# Altium footprint library RM48L950DPGET.PcbLib: 3 footprints
Each footprint in its own frame and in the unit in brackets; x right, y up, seen from the top. Pads: shape width x height; smd on the part's side, far side on the other; paste and mask are expansions set on the pad; w line width, h text height; cw(c..) or ccw(c..) is an arc to the next point about the centre after c.
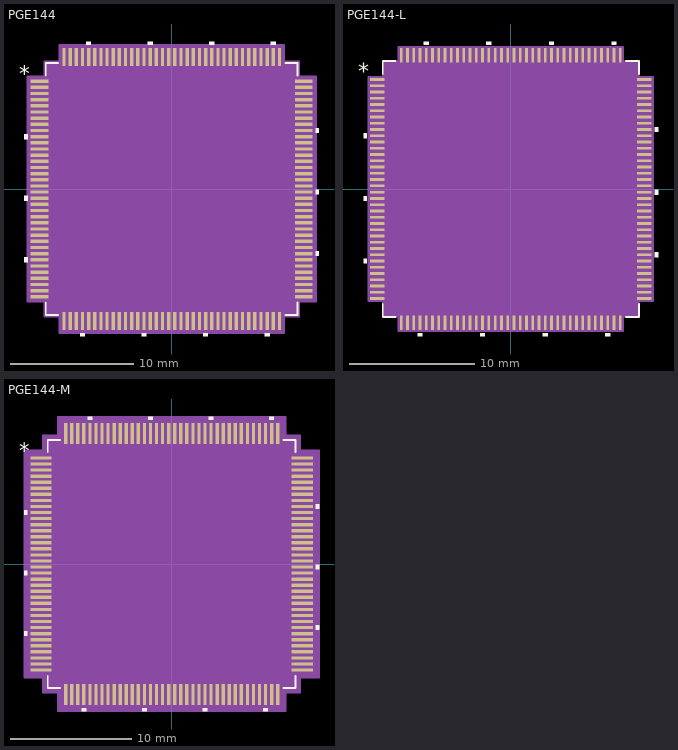
[diagram p0: the footprints below, top view; thin cyan lines are the x and y axes]

## PGE144 [mm]
pads (144):
  rect 1.45x0.27 smd paste+0 mask+0: 1(-10.725,8.75) 2(-10.725,8.25) 3(-10.725,7.75) 4(-10.725,7.25) 5(-10.725,6.75) 6(-10.725,6.25) 7(-10.725,5.75) 8(-10.725,5.25) 9(-10.725,4.75) 10(-10.725,4.25) 11(-10.725,3.75) 12(-10.725,3.25) 13(-10.725,2.75) 14(-10.725,2.25) 15(-10.725,1.75) 16(-10.725,1.25) 17(-10.725,0.75) 18(-10.725,0.25) 19(-10.725,-0.25) 20(-10.725,-0.75) 21(-10.725,-1.25) 22(-10.725,-1.75) 23(-10.725,-2.25) 24(-10.725,-2.75) 25(-10.725,-3.25) 26(-10.725,-3.75) 27(-10.725,-4.25) 28(-10.725,-4.75) 29(-10.725,-5.25) 30(-10.725,-5.75) 31(-10.725,-6.25) 32(-10.725,-6.75) 33(-10.725,-7.25) 34(-10.725,-7.75) 35(-10.725,-8.25) 36(-10.725,-8.75) 73(10.725,-8.75) 74(10.725,-8.25) 75(10.725,-7.75) 76(10.725,-7.25) 77(10.725,-6.75) 78(10.725,-6.25) 79(10.725,-5.75) 80(10.725,-5.25) 81(10.725,-4.75) 82(10.725,-4.25) 83(10.725,-3.75) 84(10.725,-3.25) 85(10.725,-2.75) 86(10.725,-2.25) 87(10.725,-1.75) 88(10.725,-1.25) 89(10.725,-0.75) 90(10.725,-0.25) 91(10.725,0.25) 92(10.725,0.75) 93(10.725,1.25) 94(10.725,1.75) 95(10.725,2.25) 96(10.725,2.75) 97(10.725,3.25) 98(10.725,3.75) 99(10.725,4.25) 100(10.725,4.75) 101(10.725,5.25) 102(10.725,5.75) 103(10.725,6.25) 104(10.725,6.75) 105(10.725,7.25) 106(10.725,7.75) 107(10.725,8.25) 108(10.725,8.75)
  rect 0.27x1.45 smd paste+0 mask+0: 37(-8.75,-10.725) 38(-8.25,-10.725) 39(-7.75,-10.725) 40(-7.25,-10.725) 41(-6.75,-10.725) 42(-6.25,-10.725) 43(-5.75,-10.725) 44(-5.25,-10.725) 45(-4.75,-10.725) 46(-4.25,-10.725) 47(-3.75,-10.725) 48(-3.25,-10.725) 49(-2.75,-10.725) 50(-2.25,-10.725) 51(-1.75,-10.725) 52(-1.25,-10.725) 53(-0.75,-10.725) 54(-0.25,-10.725) 55(0.25,-10.725) 56(0.75,-10.725) 57(1.25,-10.725) 58(1.75,-10.725) 59(2.25,-10.725) 60(2.75,-10.725) 61(3.25,-10.725) 62(3.75,-10.725) 63(4.25,-10.725) 64(4.75,-10.725) 65(5.25,-10.725) 66(5.75,-10.725) 67(6.25,-10.725) 68(6.75,-10.725) 69(7.25,-10.725) 70(7.75,-10.725) 71(8.25,-10.725) 72(8.75,-10.725) 109(8.75,10.725) 110(8.25,10.725) 111(7.75,10.725) 112(7.25,10.725) 113(6.75,10.725) 114(6.25,10.725) 115(5.75,10.725) 116(5.25,10.725) 117(4.75,10.725) 118(4.25,10.725) 119(3.75,10.725) 120(3.25,10.725) 121(2.75,10.725) 122(2.25,10.725) 123(1.75,10.725) 124(1.25,10.725) 125(0.75,10.725) 126(0.25,10.725) 127(-0.25,10.725) 128(-0.75,10.725) 129(-1.25,10.725) 130(-1.75,10.725) 131(-2.25,10.725) 132(-2.75,10.725) 133(-3.25,10.725) 134(-3.75,10.725) 135(-4.25,10.725) 136(-4.75,10.725) 137(-5.25,10.725) 138(-5.75,10.725) 139(-6.25,10.725) 140(-6.75,10.725) 141(-7.25,10.725) 142(-7.75,10.725) 143(-8.25,10.725) 144(-8.75,10.725)
Top Overlay:
  region: -11.704,4.44 -11.958,4.44 -11.958,4.059 -11.704,4.059
  region: -11.704,-0.56 -11.958,-0.56 -11.958,-0.941 -11.704,-0.941
  region: -11.704,-5.56 -11.958,-5.56 -11.958,-5.941 -11.704,-5.941
  region: -7.06,-11.704 -7.441,-11.704 -7.441,-11.958 -7.06,-11.958
  region: -2.06,-11.704 -2.441,-11.704 -2.441,-11.958 -2.06,-11.958
  region: 2.94,-11.704 2.559,-11.704 2.559,-11.958 2.94,-11.958
  region: 7.94,-11.704 7.559,-11.704 7.559,-11.958 7.94,-11.958
  region: 11.704,-5.059 11.958,-5.059 11.958,-5.44 11.704,-5.44
  region: 11.704,-0.059 11.958,-0.059 11.958,-0.44 11.704,-0.44
  region: 11.704,4.941 11.958,4.941 11.958,4.56 11.704,4.56
  region: 8.441,11.704 8.06,11.704 8.06,11.958 8.441,11.958
  region: 3.441,11.704 3.06,11.704 3.06,11.958 3.441,11.958
  region: -1.559,11.704 -1.94,11.704 -1.94,11.958 -1.559,11.958
  region: -6.559,11.704 -6.94,11.704 -6.94,11.958 -6.559,11.958
  lines w0.152: -10.227,-9.218 -10.227,-10.227 -9.218,-10.227 ; -10.227,9.218 -10.227,10.227 -9.218,10.227 ; 9.218,-10.227 10.227,-10.227 10.227,-9.218 ; 9.218,10.227 10.227,10.227 10.227,9.218
  text "*" at -12.402,8.746 h1.27
Mechanical 13:
  drawing of 581 lines, arcs and shapes, not listed
  text "*" at -10.037,8.365 h1.27
Mechanical 15:
  region: -9.139,-10.354 -10.354,-10.354 -10.354,-9.139 -11.704,-9.139 -11.704,9.139 -10.354,9.139 -10.354,10.354 -9.139,10.354 -9.139,11.704 9.139,11.704 9.139,10.354 10.354,10.354 10.354,9.139 11.704,9.139 11.704,-9.139 10.354,-9.139 10.354,-10.354 9.139,-10.354 9.139,-11.704 -9.139,-11.704
  lines w0.152: -11.704,-9.139 -10.354,-9.139 -10.354,-10.354 -9.139,-10.354 -9.139,-11.704 9.139,-11.704 9.139,-10.354 10.354,-10.354 10.354,-9.139 11.704,-9.139 11.704,9.139 10.354,9.139 10.354,10.354 9.139,10.354 9.139,11.704 -9.139,11.704 -9.139,10.354 -10.354,10.354 -10.354,9.139 -11.704,9.139 -11.704,-9.139
3D body "PGE144.step": height 1.45, standoff 0, extent -11.1,-11.1 11.1,11.1

## PGE144-L [mm]
pads (144):
  rect 1.15x0.22 smd paste+0 mask+0: 1(-10.675,8.75) 2(-10.675,8.25) 3(-10.675,7.75) 4(-10.675,7.25) 5(-10.675,6.75) 6(-10.675,6.25) 7(-10.675,5.75) 8(-10.675,5.25) 9(-10.675,4.75) 10(-10.675,4.25) 11(-10.675,3.75) 12(-10.675,3.25) 13(-10.675,2.75) 14(-10.675,2.25) 15(-10.675,1.75) 16(-10.675,1.25) 17(-10.675,0.75) 18(-10.675,0.25) 19(-10.675,-0.25) 20(-10.675,-0.75) 21(-10.675,-1.25) 22(-10.675,-1.75) 23(-10.675,-2.25) 24(-10.675,-2.75) 25(-10.675,-3.25) 26(-10.675,-3.75) 27(-10.675,-4.25) 28(-10.675,-4.75) 29(-10.675,-5.25) 30(-10.675,-5.75) 31(-10.675,-6.25) 32(-10.675,-6.75) 33(-10.675,-7.25) 34(-10.675,-7.75) 35(-10.675,-8.25) 36(-10.675,-8.75) 73(10.675,-8.75) 74(10.675,-8.25) 75(10.675,-7.75) 76(10.675,-7.25) 77(10.675,-6.75) 78(10.675,-6.25) 79(10.675,-5.75) 80(10.675,-5.25) 81(10.675,-4.75) 82(10.675,-4.25) 83(10.675,-3.75) 84(10.675,-3.25) 85(10.675,-2.75) 86(10.675,-2.25) 87(10.675,-1.75) 88(10.675,-1.25) 89(10.675,-0.75) 90(10.675,-0.25) 91(10.675,0.25) 92(10.675,0.75) 93(10.675,1.25) 94(10.675,1.75) 95(10.675,2.25) 96(10.675,2.75) 97(10.675,3.25) 98(10.675,3.75) 99(10.675,4.25) 100(10.675,4.75) 101(10.675,5.25) 102(10.675,5.75) 103(10.675,6.25) 104(10.675,6.75) 105(10.675,7.25) 106(10.675,7.75) 107(10.675,8.25) 108(10.675,8.75)
  rect 0.22x1.15 smd paste+0 mask+0: 37(-8.75,-10.675) 38(-8.25,-10.675) 39(-7.75,-10.675) 40(-7.25,-10.675) 41(-6.75,-10.675) 42(-6.25,-10.675) 43(-5.75,-10.675) 44(-5.25,-10.675) 45(-4.75,-10.675) 46(-4.25,-10.675) 47(-3.75,-10.675) 48(-3.25,-10.675) 49(-2.75,-10.675) 50(-2.25,-10.675) 51(-1.75,-10.675) 52(-1.25,-10.675) 53(-0.75,-10.675) 54(-0.25,-10.675) 55(0.25,-10.675) 56(0.75,-10.675) 57(1.25,-10.675) 58(1.75,-10.675) 59(2.25,-10.675) 60(2.75,-10.675) 61(3.25,-10.675) 62(3.75,-10.675) 63(4.25,-10.675) 64(4.75,-10.675) 65(5.25,-10.675) 66(5.75,-10.675) 67(6.25,-10.675) 68(6.75,-10.675) 69(7.25,-10.675) 70(7.75,-10.675) 71(8.25,-10.675) 72(8.75,-10.675) 109(8.75,10.675) 110(8.25,10.675) 111(7.75,10.675) 112(7.25,10.675) 113(6.75,10.675) 114(6.25,10.675) 115(5.75,10.675) 116(5.25,10.675) 117(4.75,10.675) 118(4.25,10.675) 119(3.75,10.675) 120(3.25,10.675) 121(2.75,10.675) 122(2.25,10.675) 123(1.75,10.675) 124(1.25,10.675) 125(0.75,10.675) 126(0.25,10.675) 127(-0.25,10.675) 128(-0.75,10.675) 129(-1.25,10.675) 130(-1.75,10.675) 131(-2.25,10.675) 132(-2.75,10.675) 133(-3.25,10.675) 134(-3.75,10.675) 135(-4.25,10.675) 136(-4.75,10.675) 137(-5.25,10.675) 138(-5.75,10.675) 139(-6.25,10.675) 140(-6.75,10.675) 141(-7.25,10.675) 142(-7.75,10.675) 143(-8.25,10.675) 144(-8.75,10.675)
Top Overlay:
  region: -11.504,4.44 -11.758,4.44 -11.758,4.059 -11.504,4.059
  region: -11.504,-0.56 -11.758,-0.56 -11.758,-0.941 -11.504,-0.941
  region: -11.504,-5.56 -11.758,-5.56 -11.758,-5.941 -11.504,-5.941
  region: -7.06,-11.504 -7.441,-11.504 -7.441,-11.758 -7.06,-11.758
  region: -2.06,-11.504 -2.441,-11.504 -2.441,-11.758 -2.06,-11.758
  region: 2.94,-11.504 2.559,-11.504 2.559,-11.758 2.94,-11.758
  region: 7.94,-11.504 7.559,-11.504 7.559,-11.758 7.94,-11.758
  region: 11.504,-5.059 11.758,-5.059 11.758,-5.44 11.504,-5.44
  region: 11.504,-0.059 11.758,-0.059 11.758,-0.44 11.504,-0.44
  region: 11.504,4.941 11.758,4.941 11.758,4.56 11.504,4.56
  region: 8.441,11.504 8.06,11.504 8.06,11.758 8.441,11.758
  region: 3.441,11.504 3.06,11.504 3.06,11.758 3.441,11.758
  region: -1.559,11.504 -1.94,11.504 -1.94,11.758 -1.559,11.758
  region: -6.559,11.504 -6.94,11.504 -6.94,11.758 -6.559,11.758
  lines w0.152: -10.227,-9.193 -10.227,-10.227 -9.193,-10.227 ; -10.227,9.193 -10.227,10.227 -9.193,10.227 ; 9.193,-10.227 10.227,-10.227 10.227,-9.193 ; 9.193,10.227 10.227,10.227 10.227,9.193
  text "*" at -12.202,8.746 h1.27
Mechanical 13:
  drawing of 581 lines, arcs and shapes, not listed
  text "*" at -10.037,8.365 h1.27
Mechanical 15:
  region: -8.962,-10.202 -10.202,-10.202 -10.202,-8.962 -11.352,-8.962 -11.352,8.962 -10.202,8.962 -10.202,10.202 -8.962,10.202 -8.962,11.352 8.962,11.352 8.962,10.202 10.202,10.202 10.202,8.962 11.352,8.962 11.352,-8.962 10.202,-8.962 10.202,-10.202 8.962,-10.202 8.962,-11.352 -8.962,-11.352
  lines w0.152: -11.352,-8.962 -10.202,-8.962 -10.202,-10.202 -8.962,-10.202 -8.962,-11.352 8.962,-11.352 8.962,-10.202 10.202,-10.202 10.202,-8.962 11.352,-8.962 11.352,8.962 10.202,8.962 10.202,10.202 8.962,10.202 8.962,11.352 -8.962,11.352 -8.962,10.202 -10.202,10.202 -10.202,8.962 -11.352,8.962 -11.352,-8.962
3D body "PGE144.step": height 1.45, standoff 0, extent -11.1,-11.1 11.1,11.1

## PGE144-M [mm]
pads (144):
  rect 1.75x0.27 smd paste+0 mask+0: 1(-10.775,8.75) 2(-10.775,8.25) 3(-10.775,7.75) 4(-10.775,7.25) 5(-10.775,6.75) 6(-10.775,6.25) 7(-10.775,5.75) 8(-10.775,5.25) 9(-10.775,4.75) 10(-10.775,4.25) 11(-10.775,3.75) 12(-10.775,3.25) 13(-10.775,2.75) 14(-10.775,2.25) 15(-10.775,1.75) 16(-10.775,1.25) 17(-10.775,0.75) 18(-10.775,0.25) 19(-10.775,-0.25) 20(-10.775,-0.75) 21(-10.775,-1.25) 22(-10.775,-1.75) 23(-10.775,-2.25) 24(-10.775,-2.75) 25(-10.775,-3.25) 26(-10.775,-3.75) 27(-10.775,-4.25) 28(-10.775,-4.75) 29(-10.775,-5.25) 30(-10.775,-5.75) 31(-10.775,-6.25) 32(-10.775,-6.75) 33(-10.775,-7.25) 34(-10.775,-7.75) 35(-10.775,-8.25) 36(-10.775,-8.75) 73(10.775,-8.75) 74(10.775,-8.25) 75(10.775,-7.75) 76(10.775,-7.25) 77(10.775,-6.75) 78(10.775,-6.25) 79(10.775,-5.75) 80(10.775,-5.25) 81(10.775,-4.75) 82(10.775,-4.25) 83(10.775,-3.75) 84(10.775,-3.25) 85(10.775,-2.75) 86(10.775,-2.25) 87(10.775,-1.75) 88(10.775,-1.25) 89(10.775,-0.75) 90(10.775,-0.25) 91(10.775,0.25) 92(10.775,0.75) 93(10.775,1.25) 94(10.775,1.75) 95(10.775,2.25) 96(10.775,2.75) 97(10.775,3.25) 98(10.775,3.75) 99(10.775,4.25) 100(10.775,4.75) 101(10.775,5.25) 102(10.775,5.75) 103(10.775,6.25) 104(10.775,6.75) 105(10.775,7.25) 106(10.775,7.75) 107(10.775,8.25) 108(10.775,8.75)
  rect 0.27x1.75 smd paste+0 mask+0: 37(-8.75,-10.775) 38(-8.25,-10.775) 39(-7.75,-10.775) 40(-7.25,-10.775) 41(-6.75,-10.775) 42(-6.25,-10.775) 43(-5.75,-10.775) 44(-5.25,-10.775) 45(-4.75,-10.775) 46(-4.25,-10.775) 47(-3.75,-10.775) 48(-3.25,-10.775) 49(-2.75,-10.775) 50(-2.25,-10.775) 51(-1.75,-10.775) 52(-1.25,-10.775) 53(-0.75,-10.775) 54(-0.25,-10.775) 55(0.25,-10.775) 56(0.75,-10.775) 57(1.25,-10.775) 58(1.75,-10.775) 59(2.25,-10.775) 60(2.75,-10.775) 61(3.25,-10.775) 62(3.75,-10.775) 63(4.25,-10.775) 64(4.75,-10.775) 65(5.25,-10.775) 66(5.75,-10.775) 67(6.25,-10.775) 68(6.75,-10.775) 69(7.25,-10.775) 70(7.75,-10.775) 71(8.25,-10.775) 72(8.75,-10.775) 109(8.75,10.775) 110(8.25,10.775) 111(7.75,10.775) 112(7.25,10.775) 113(6.75,10.775) 114(6.25,10.775) 115(5.75,10.775) 116(5.25,10.775) 117(4.75,10.775) 118(4.25,10.775) 119(3.75,10.775) 120(3.25,10.775) 121(2.75,10.775) 122(2.25,10.775) 123(1.75,10.775) 124(1.25,10.775) 125(0.75,10.775) 126(0.25,10.775) 127(-0.25,10.775) 128(-0.75,10.775) 129(-1.25,10.775) 130(-1.75,10.775) 131(-2.25,10.775) 132(-2.75,10.775) 133(-3.25,10.775) 134(-3.75,10.775) 135(-4.25,10.775) 136(-4.75,10.775) 137(-5.25,10.775) 138(-5.75,10.775) 139(-6.25,10.775) 140(-6.75,10.775) 141(-7.25,10.775) 142(-7.75,10.775) 143(-8.25,10.775) 144(-8.75,10.775)
Top Overlay:
  region: -11.904,4.44 -12.158,4.44 -12.158,4.059 -11.904,4.059
  region: -11.904,-0.56 -12.158,-0.56 -12.158,-0.941 -11.904,-0.941
  region: -11.904,-5.56 -12.158,-5.56 -12.158,-5.941 -11.904,-5.941
  region: -7.06,-11.904 -7.441,-11.904 -7.441,-12.158 -7.06,-12.158
  region: -2.06,-11.904 -2.441,-11.904 -2.441,-12.158 -2.06,-12.158
  region: 2.94,-11.904 2.559,-11.904 2.559,-12.158 2.94,-12.158
  region: 7.94,-11.904 7.559,-11.904 7.559,-12.158 7.94,-12.158
  region: 11.904,-5.059 12.158,-5.059 12.158,-5.44 11.904,-5.44
  region: 11.904,-0.059 12.158,-0.059 12.158,-0.44 11.904,-0.44
  region: 11.904,4.941 12.158,4.941 12.158,4.56 11.904,4.56
  region: 8.441,11.904 8.06,11.904 8.06,12.158 8.441,12.158
  region: 3.441,11.904 3.06,11.904 3.06,12.158 3.441,12.158
  region: -1.559,11.904 -1.94,11.904 -1.94,12.158 -1.559,12.158
  region: -6.559,11.904 -6.94,11.904 -6.94,12.158 -6.559,12.158
  lines w0.152: -10.227,-9.218 -10.227,-10.227 -9.218,-10.227 ; -10.227,9.218 -10.227,10.227 -9.218,10.227 ; 9.218,-10.227 10.227,-10.227 10.227,-9.218 ; 9.218,10.227 10.227,10.227 10.227,9.218
  text "*" at -12.602,8.746 h1.27
Mechanical 13:
  drawing of 581 lines, arcs and shapes, not listed
  text "*" at -10.037,8.365 h1.27
Mechanical 15:
  region: -9.393,-10.608 -10.608,-10.608 -10.608,-9.393 -12.158,-9.393 -12.158,9.393 -10.608,9.393 -10.608,10.608 -9.393,10.608 -9.393,12.158 9.393,12.158 9.393,10.608 10.608,10.608 10.608,9.393 12.158,9.393 12.158,-9.393 10.608,-9.393 10.608,-10.608 9.393,-10.608 9.393,-12.158 -9.393,-12.158
  lines w0.152: -12.158,-9.393 -10.608,-9.393 -10.608,-10.608 -9.393,-10.608 -9.393,-12.158 9.393,-12.158 9.393,-10.608 10.608,-10.608 10.608,-9.393 12.158,-9.393 12.158,9.393 10.608,9.393 10.608,10.608 9.393,10.608 9.393,12.158 -9.393,12.158 -9.393,10.608 -10.608,10.608 -10.608,9.393 -12.158,9.393 -12.158,-9.393
3D body "PGE144.step": height 1.45, standoff 0, extent -11.1,-11.1 11.1,11.1